# EAGLE library part 20PAD (library Pad_MORISHITA)
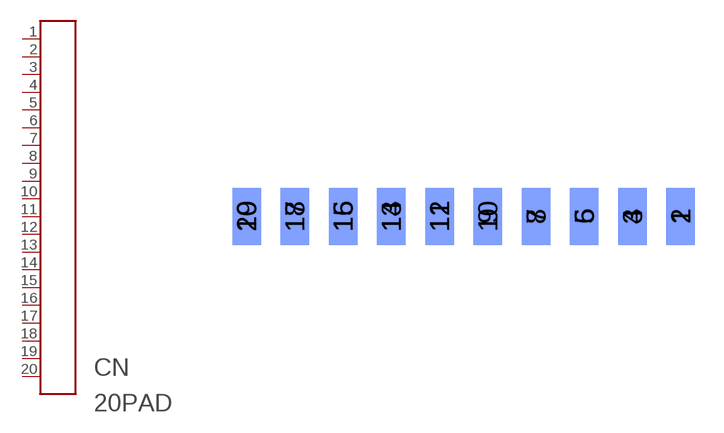
[diagram p2: symbol with the pads of 20POLE_P2.54; footprint 20POLE_P2.54]

Designator prefix CN

## 20PAD-2.54  [20POLE_P2.54]
1  P$1
2  P$2
3  P$3
4  P$4
5  P$5
6  P$6
7  P$7
8  P$8
9  P$9
10  P$10
11  P$11
12  P$12
13  P$13
14  P$14
15  P$15
16  P$16
17  P$17
18  P$18
19  P$19
20  P$20

## Footprint 20POLE_P2.54 (pad centres in mm)
smd 1.5 x 3: 1 11.43,0; 3 8.89,0; 5 6.35,0; 7 3.81,0; 9 1.27,0; 11 -1.27,0; 13 -3.81,0; 15 -6.35,0; 17 -8.89,0; 19 -11.43,0
smd 1.5 x 3 bottom: 2 11.43,0; 4 8.89,0; 6 6.35,0; 8 3.81,0; 10 1.27,0; 12 -1.27,0; 14 -3.81,0; 16 -6.35,0; 18 -8.89,0; 20 -11.43,0